# EAGLE library part SPRESENSE (library FaBo-PIN)
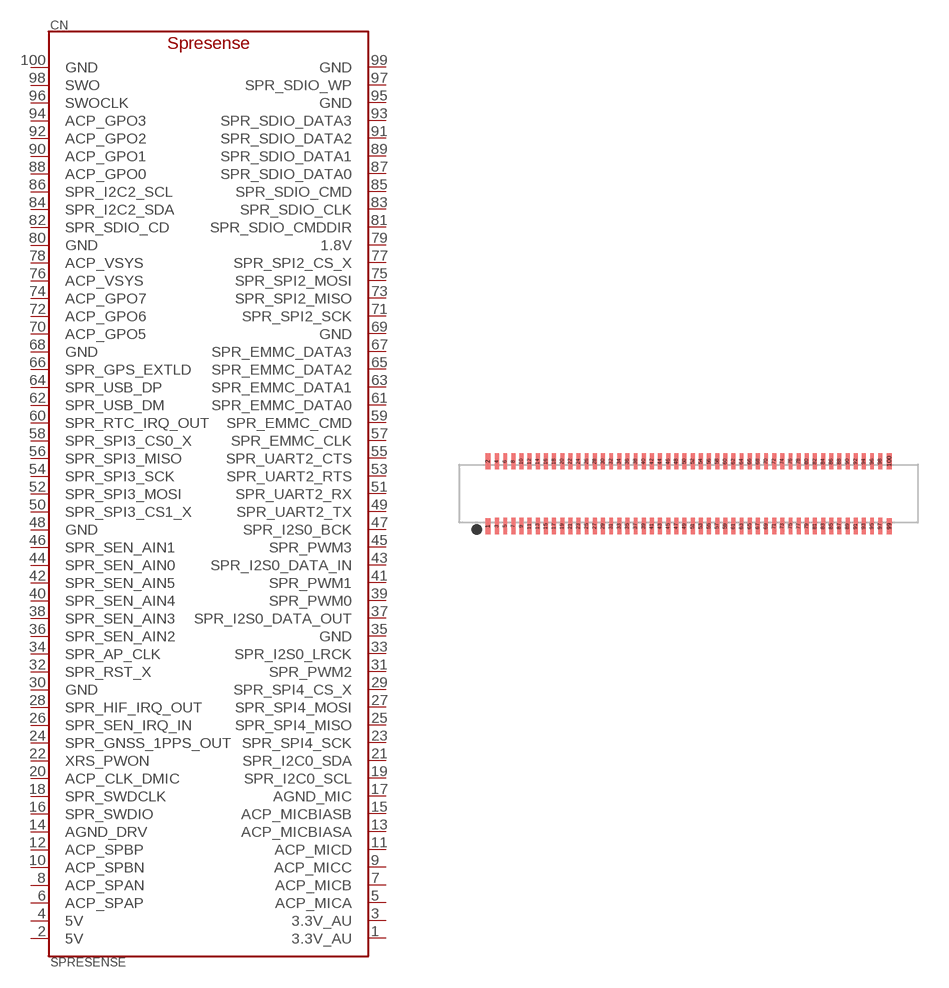
[diagram p26: symbol with the pads of DF40HC(3.0)-100DS-0.4V(51); footprint DF40HC(3.0)-100DS-0.4V(51)]

Designator prefix CN

## SPRESENSE_RECEPTACLE  [DF40HC(3.0)-100DS-0.4V(51)]
1  3.3V_AU
2  5V
3  3.3V_AU
4  5V
5  ACP_MICA
6  ACP_SPAP
7  ACP_MICB
8  ACP_SPAN
9  ACP_MICC
10  ACP_SPBN
11  ACP_MICD
12  ACP_SPBP
13  ACP_MICBIASA
14  AGND_DRV
15  ACP_MICBIASB
16  SPR_SWDIO
17  AGND_MIC
18  SPR_SWDCLK
19  SPR_I2C0_SCL
20  ACP_CLK_DMIC
21  SPR_I2C0_SDA
22  XRS_PWON
23  SPR_SPI4_SCK
24  SPR_GNSS_1PPS_OUT
25  SPR_SPI4_MISO
26  SPR_SEN_IRQ_IN
27  SPR_SPI4_MOSI
28  SPR_HIF_IRQ_OUT
29  SPR_SPI4_CS_X
30  GND
31  SPR_PWM2
32  SPR_RST_X
33  SPR_I2S0_LRCK
34  SPR_AP_CLK
35  GND
36  SPR_SEN_AIN2
37  SPR_I2S0_DATA_OUT
38  SPR_SEN_AIN3
39  SPR_PWM0
40  SPR_SEN_AIN4
41  SPR_PWM1
42  SPR_SEN_AIN5
43  SPR_I2S0_DATA_IN
44  SPR_SEN_AIN0
45  SPR_PWM3
46  SPR_SEN_AIN1
47  SPR_I2S0_BCK
48  GND
49  SPR_UART2_TX
50  SPR_SPI3_CS1_X
51  SPR_UART2_RX
52  SPR_SPI3_MOSI
53  SPR_UART2_RTS
54  SPR_SPI3_SCK
55  SPR_UART2_CTS
56  SPR_SPI3_MISO
57  SPR_EMMC_CLK
58  SPR_SPI3_CS0_X
59  SPR_EMMC_CMD
60  SPR_RTC_IRQ_OUT
61  SPR_EMMC_DATA0
62  SPR_USB_DM
63  SPR_EMMC_DATA1
64  SPR_USB_DP
65  SPR_EMMC_DATA2
66  SPR_GPS_EXTLD
67  SPR_EMMC_DATA3
68  GND
69  GND
70  ACP_GPO5
71  SPR_SPI2_SCK
72  ACP_GPO6
73  SPR_SPI2_MISO
74  ACP_GPO7
75  SPR_SPI2_MOSI
76  ACP_VSYS
77  SPR_SPI2_CS_X
78  ACP_VSYS
79  1.8V
80  GND
81  SPR_SDIO_CMDDIR
82  SPR_SDIO_CD
83  SPR_SDIO_CLK
84  SPR_I2C2_SDA
85  SPR_SDIO_CMD
86  SPR_I2C2_SCL
87  SPR_SDIO_DATA0
88  ACP_GPO0
89  SPR_SDIO_DATA1
90  ACP_GPO1
91  SPR_SDIO_DATA2
92  ACP_GPO2
93  SPR_SDIO_DATA3
94  ACP_GPO3
95  GND
96  SWOCLK
97  SPR_SDIO_WP
98  SWO
99  GND
100  GND

## Footprint DF40HC(3.0)-100DS-0.4V(51) (pad centres in mm)
smd 0.3 x 0.8: 1 -9.85,-1.59; 2 -9.85,1.59; 99 9.85,-1.59; 100 9.85,1.59
smd 0.24 x 0.8: 3 -9.4,-1.59; 4 -9.4,1.59; 5 -9,-1.59; 6 -9,1.59; 7 -8.6,-1.59; 8 -8.6,1.59; 9 -8.2,-1.59; 10 -8.2,1.59; 11 -7.8,-1.59; 12 -7.8,1.59; 13 -7.4,-1.59; 14 -7.4,1.59; 15 -7,-1.59; 16 -7,1.59; 17 -6.6,-1.59; 18 -6.6,1.59; 19 -6.2,-1.59; 20 -6.2,1.59; 21 -5.8,-1.59; 22 -5.8,1.59; 23 -5.4,-1.59; 24 -5.4,1.59; 25 -5,-1.59; 26 -5,1.59; 27 -4.6,-1.59; 28 -4.6,1.59; 29 -4.2,-1.59; 30 -4.2,1.59; 31 -3.8,-1.59; 32 -3.8,1.59; 33 -3.4,-1.59; 34 -3.4,1.59; 35 -3,-1.59; 36 -3,1.59; 37 -2.6,-1.59; 38 -2.6,1.59; 39 -2.2,-1.59; 40 -2.2,1.59; 41 -1.8,-1.59; 42 -1.8,1.59; 43 -1.4,-1.59; 44 -1.4,1.59; 45 -1,-1.59; 46 -1,1.59; 47 -0.6,-1.59; 48 -0.6,1.59; 49 -0.2,-1.59; 50 -0.2,1.59; 51 0.2,-1.59; 52 0.2,1.59; 53 0.6,-1.59; 54 0.6,1.59; 55 1,-1.59; 56 1,1.59; 57 1.4,-1.59; 58 1.4,1.59; 59 1.8,-1.59; 60 1.8,1.59; 61 2.2,-1.59; 62 2.2,1.59; 63 2.6,-1.59; 64 2.6,1.59; 65 3,-1.59; 66 3,1.59; 67 3.4,-1.59; 68 3.4,1.59; 69 3.8,-1.59; 70 3.8,1.59; 71 4.2,-1.59; 72 4.2,1.59; 73 4.6,-1.59; 74 4.6,1.59; 75 5,-1.59; 76 5,1.59; 77 5.4,-1.59; 78 5.4,1.59; 79 5.8,-1.59; 80 5.8,1.59; 81 6.2,-1.59; 82 6.2,1.59; 83 6.6,-1.59; 84 6.6,1.59; 85 7,-1.59; 86 7,1.59; 87 7.4,-1.59; 88 7.4,1.59; 89 7.8,-1.59; 90 7.8,1.59; 91 8.2,-1.59; 92 8.2,1.59; 93 8.6,-1.59; 94 8.6,1.59; 95 9,-1.59; 96 9,1.59; 97 9.4,-1.59; 98 9.4,1.59